# Altium schematic symbol library MAX14515AEWA+T.SchLib: 2 symbols
Pins are listed as number, name and electrical type; pins without a type are passive.

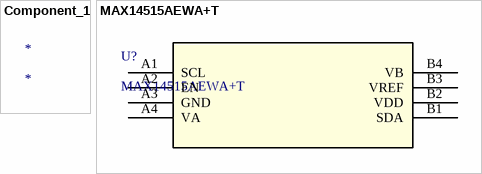
[diagram p0: symbols Component_1 to MAX14515AEWA+T]

## Component_1
designator *

## MAX14515AEWA+T
designator U?
No Description Available; Mfr_Name: Analog Devices Inc; Copyright: Copyright (C) 2023 Ultra Librarian. All rights reserved.; Manufacturer_Part_Number: MAX14515AEWA+T; Digi-Key_Part_Number_1: 175-MAX14515AEWA+TTR-ND; Digi-Key_Part_Number_2: 2156-MAX14515AEWA+T-ND; Digi-Key_Part_Number_3: MAX14515AEWA+T-ND; Digi-Key_Part_Number_4: MAX14515AEWA+TCT-ND; Digi-Key_Part_Number_5: MAX14515AEWA+TDKR-ND; Digi-Key_Part_Number_6: MAX14515AEWA+TTR-ND; RefDes: RefDes; Type: DEV
footprint 21-0210C_W81A2-1_MXM
pins: A1 SCL, A2 EN, A3 GND (power), A4 VA, B1 SDA, B2 VDD (power), B3 VREF (power), B4 VB